# Altium schematic symbol library AD9744ACPZ.SchLib: 3 symbols
Pins are listed as number, name and electrical type; pins without a type are passive.

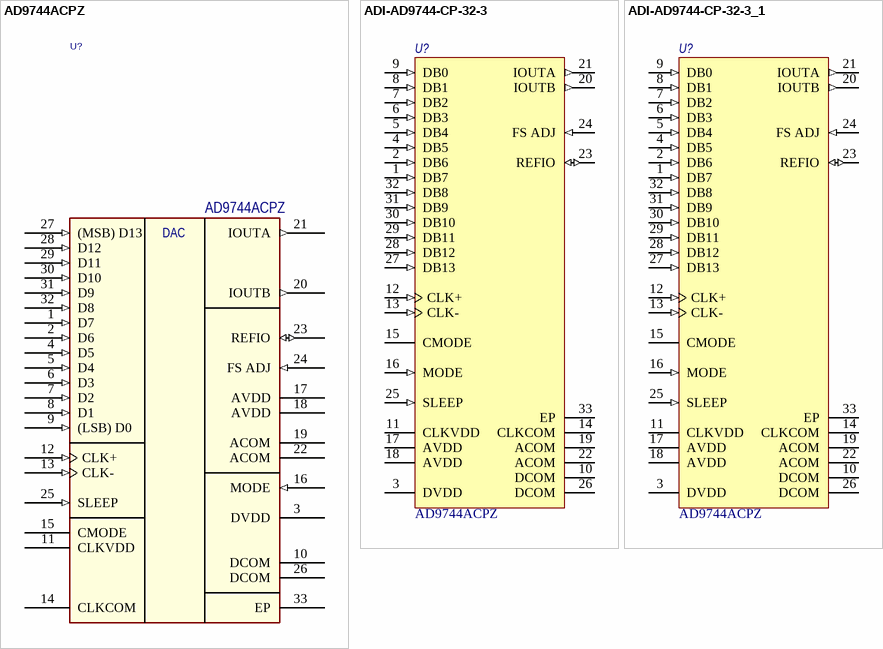
[diagram p0: symbols AD9744ACPZ to ADI-AD9744-CP-32-3_1]

## AD9744ACPZ
designator U?
14-Bit, 210 MSPS DAC; Потребление, Вт: 0,150; ComponentLink1Description: DataSheet; ComponentLink1URL: https://www.analog.com/media/en/technical-documentation/data-sheets/AD9744.pdf; Supplier 1: Digi-Key; Supplier Part Number 1: AD9744ACPZRL7CT-ND; Назначение: 14-Bit, 210 MSPS DAC; Наименование: AD9744ACPZ
pins: 1 D7 (in), 2 D6 (in), 3 DVDD (power) "Digital Supply Voltage (3.3 V).", 4 D5 (in), 5 D4 (in), 6 D3 (in), 7 D2 (in), 8 D1 (in), 9 (LSB) D0  (in), 10 DCOM (power) "Digital Common.", 11 CLKVDD (power) "Clock Supply Voltage (3.3 V).", 12 CLK+ (in) "Differential Clock Input.", 13 CLK- (in) "Differential Clock Input.", 14 CLKCOM (power) "Clock Common.", 15 CMODE "Clock Mode Selection. Connect to CLKCOM for single-ended clock receiver (drive CLK+ and float CLK-). Connect to CLKVDD for differential receiver. Float for PECL receiver (terminations on-chip).", 16 MODE (in) "Selects Input Data Format. Connect to DCOM for straight binary, DVDD for twos complement.", 17 AVDD (power) "Analog Supply Voltage (3.3 V).", 18 AVDD (power) "Analog Supply Voltage (3.3 V).", 19 ACOM (power) "Analog Common.", 20 IOUTB (out) "Complementary DAC Current Output. Full-scale current when all data bits are 0s.", 21 IOUTA (out) "DAC Current Output. Full-scale current when all data bits are 1s.", 22 ACOM (power) "Analog Common.", 23 REFIO (io) "Reference Input/Output. Serves as reference input when using external reference. Serves as 1.2 V reference output when using internal reference. Requires 0.1 uF capacitor to ACOM when using internal reference.", 24 FS ADJ (in) "Full-Scale Current Output Adjust.", 25 SLEEP (in) "Power-Down Control Input. Active high. Contains active pull-down circuit; it may be left unterminated if not used.", 26 DCOM (power) "Digital Common.", 27 (MSB) D13 (in), 28 D12 (in), 29 D11 (in), 30 D10 (in), 31 D9 (in), 32 D8 (in), 33 EP "Exposed pad"
text: DAC

## ADI-AD9744-CP-32-3
designator U?, comment AD9744ACPZ
Single 14-Bit TxDAC, 210 Msps, -40 to +85 degC, CP-32-3, Pb-Free, Tray; Manufacturer: Analog Devices; Generic Part Number: AD9744; Resolution (Bits): 14; Settling Time: 11ns; Max V+: 3.6V; Single Supply: Yes; Op Pwr Diss: 145mW; # DAC Outputs: 1; ComponentLink2Description: Datasheet; PackageReference: CP-32-3; ComponentLink4URL: http://www.analog.com/en/digital-to-analog-converters/da-converters/ad9744/products/product.html; ComponentLink2URL: http://www.analog.com/static/imported-files/data_sheets/AD9744.pdf; ComponentLink4Description: Product URL; Packing: Tray; ComponentLink1Description: Manufacturer URL; Mounting Technology: Surface Mount; PackageDescription: 32-Lead Lead Frame Chip Scale Package [LFCSP_VQ] 5 x 5 mm Body, Very Thin Quad; PackageVersion: Jan-2005; ComponentLink3URL: http://www.analog.com/static/imported-files/packages/32877413525511988CP_32_3.pdf; Code_JEDEC: MO-220-VHHD-2; ComponentLink3Description: Package Specification; ComponentLink1URL: http://www.analog.com/en/index.html; DatasheetVersion: Rev.B; RevisionNote: Component URL fixed; PartNumber: AD9744ACPZ; RoHS: Y
footprint CP-32-3_L (QFN, 32-Leads, Body 5x5mm, Pitch 0.5mm, Thermal Pad 3.3x3.3mm, IPC High Density)
footprint CP-32-3_M (QFN, 32-Leads, Body 5x5mm, Pitch 0.5mm, Thermal Pad 3.3x3.3mm, IPC Low Density)
footprint CP-32-3_N (QFN, 32-Leads, Body 5x5mm, Pitch 0.5mm, Thermal Pad 3.3x3.3mm, IPC Medium Density)
pins: 1 DB7 (in) "Data Bit 7", 2 DB6 (in) "Data Bit 6", 3 DVDD (power) "Digital Supply Voltage (3.3 V).", 4 DB5 (in) "Data Bit 5", 5 DB4 (in) "Data Bit 4", 6 DB3 (in) "Data Bit 3", 7 DB2 (in) "Data Bit 2", 8 DB1 (in) "Data Bit 1", 9 DB0 (in) "Least Significant Data Bit (LSB).", 10 DCOM (power) "Digital Common.", 11 CLKVDD (power) "Clock Supply Voltage (3.3 V).", 12 CLK+ (in) "Differential Clock Input.", 13 CLK- (in) "Differential Clock Input.", 14 CLKCOM (power) "Clock Common.", 15 CMODE "Clock Mode Selection. Connect to CLKCOM for single-ended clock receiver (drive CLK+ and float CLK-). Connect to CLKVDD for differential receiver. Float for PECL receiver (terminations on-chip).", 16 MODE (in) "Selects Input Data Format. Connect to DCOM for straight binary, DVDD for twos complement.", 17 AVDD (power) "Analog Supply Voltage (3.3 V).", 18 AVDD (power) "Analog Supply Voltage (3.3 V).", 19 ACOM (power) "Analog Common.", 20 IOUTB (out) "Complementary DAC Current Output. Full-scale current when all data bits are 0s.", 21 IOUTA (out) "DAC Current Output. Full-scale current when all data bits are 1s.", 22 ACOM (power) "Analog Common.", 23 REFIO (io) "Reference Input/Output. Serves as reference input when using external reference. Serves as 1.2 V reference output when using internal reference. Requires 0.1 uF capacitor to ACOM when using internal reference.", 24 FS ADJ (in) "Full-Scale Current Output Adjust.", 25 SLEEP (in) "Power-Down Control Input. Active high. Contains active pull-down circuit; it may be left unterminated if not used.", 26 DCOM (power) "Digital Common.", 27 DB13 (in) "Most Significant Data Bit (MSB).", 28 DB12 (in) "Data Bit 12", 29 DB11 (in) "Data Bit 11", 30 DB10 (in) "Data Bit 10", 31 DB9 (in) "Data Bit 9", 32 DB8 (in) "Data Bit 8", 33 EP "Exposed pad"

## ADI-AD9744-CP-32-3_1
designator U?, comment AD9744ACPZ
Single 14-Bit TxDAC, 210 Msps, -40 to +85 degC, CP-32-3, Pb-Free, Tray; Manufacturer: Analog Devices; Generic Part Number: AD9744; Resolution (Bits): 14; Settling Time: 11ns; Max V+: 3.6V; Single Supply: Yes; Op Pwr Diss: 145mW; # DAC Outputs: 1; ComponentLink2Description: Datasheet; PackageReference: CP-32-3; ComponentLink4URL: http://www.analog.com/en/digital-to-analog-converters/da-converters/ad9744/products/product.html; ComponentLink2URL: http://www.analog.com/static/imported-files/data_sheets/AD9744.pdf; ComponentLink4Description: Product URL; Packing: Tray; ComponentLink1Description: Manufacturer URL; Mounting Technology: Surface Mount; PackageDescription: 32-Lead Lead Frame Chip Scale Package [LFCSP_VQ] 5 x 5 mm Body, Very Thin Quad; PackageVersion: Jan-2005; ComponentLink3URL: http://www.analog.com/static/imported-files/packages/32877413525511988CP_32_3.pdf; Code_JEDEC: MO-220-VHHD-2; ComponentLink3Description: Package Specification; ComponentLink1URL: http://www.analog.com/en/index.html; DatasheetVersion: Rev.B; RevisionNote: Component URL fixed; PartNumber: AD9744ACPZ; RoHS: Y
footprint CP-32-3_L (QFN, 32-Leads, Body 5x5mm, Pitch 0.5mm, Thermal Pad 3.3x3.3mm, IPC High Density)
footprint CP-32-3_M (QFN, 32-Leads, Body 5x5mm, Pitch 0.5mm, Thermal Pad 3.3x3.3mm, IPC Low Density)
footprint CP-32-3_N (QFN, 32-Leads, Body 5x5mm, Pitch 0.5mm, Thermal Pad 3.3x3.3mm, IPC Medium Density)
pins: 1 DB7 (in) "Data Bit 7", 2 DB6 (in) "Data Bit 6", 3 DVDD (power) "Digital Supply Voltage (3.3 V).", 4 DB5 (in) "Data Bit 5", 5 DB4 (in) "Data Bit 4", 6 DB3 (in) "Data Bit 3", 7 DB2 (in) "Data Bit 2", 8 DB1 (in) "Data Bit 1", 9 DB0 (in) "Least Significant Data Bit (LSB).", 10 DCOM (power) "Digital Common.", 11 CLKVDD (power) "Clock Supply Voltage (3.3 V).", 12 CLK+ (in) "Differential Clock Input.", 13 CLK- (in) "Differential Clock Input.", 14 CLKCOM (power) "Clock Common.", 15 CMODE "Clock Mode Selection. Connect to CLKCOM for single-ended clock receiver (drive CLK+ and float CLK-). Connect to CLKVDD for differential receiver. Float for PECL receiver (terminations on-chip).", 16 MODE (in) "Selects Input Data Format. Connect to DCOM for straight binary, DVDD for twos complement.", 17 AVDD (power) "Analog Supply Voltage (3.3 V).", 18 AVDD (power) "Analog Supply Voltage (3.3 V).", 19 ACOM (power) "Analog Common.", 20 IOUTB (out) "Complementary DAC Current Output. Full-scale current when all data bits are 0s.", 21 IOUTA (out) "DAC Current Output. Full-scale current when all data bits are 1s.", 22 ACOM (power) "Analog Common.", 23 REFIO (io) "Reference Input/Output. Serves as reference input when using external reference. Serves as 1.2 V reference output when using internal reference. Requires 0.1 uF capacitor to ACOM when using internal reference.", 24 FS ADJ (in) "Full-Scale Current Output Adjust.", 25 SLEEP (in) "Power-Down Control Input. Active high. Contains active pull-down circuit; it may be left unterminated if not used.", 26 DCOM (power) "Digital Common.", 27 DB13 (in) "Most Significant Data Bit (MSB).", 28 DB12 (in) "Data Bit 12", 29 DB11 (in) "Data Bit 11", 30 DB10 (in) "Data Bit 10", 31 DB9 (in) "Data Bit 9", 32 DB8 (in) "Data Bit 8", 33 EP "Exposed pad"